# Altium footprint library Custom.PcbLib: 28 footprints (part 1 of 2)
Each footprint in its own frame and in the unit in brackets; x right, y up, seen from the top. Pads: shape width x height; smd on the part's side, far side on the other; paste and mask are expansions set on the pad; w line width, h text height; cw(c..) or ccw(c..) is an arc to the next point about the centre after c.
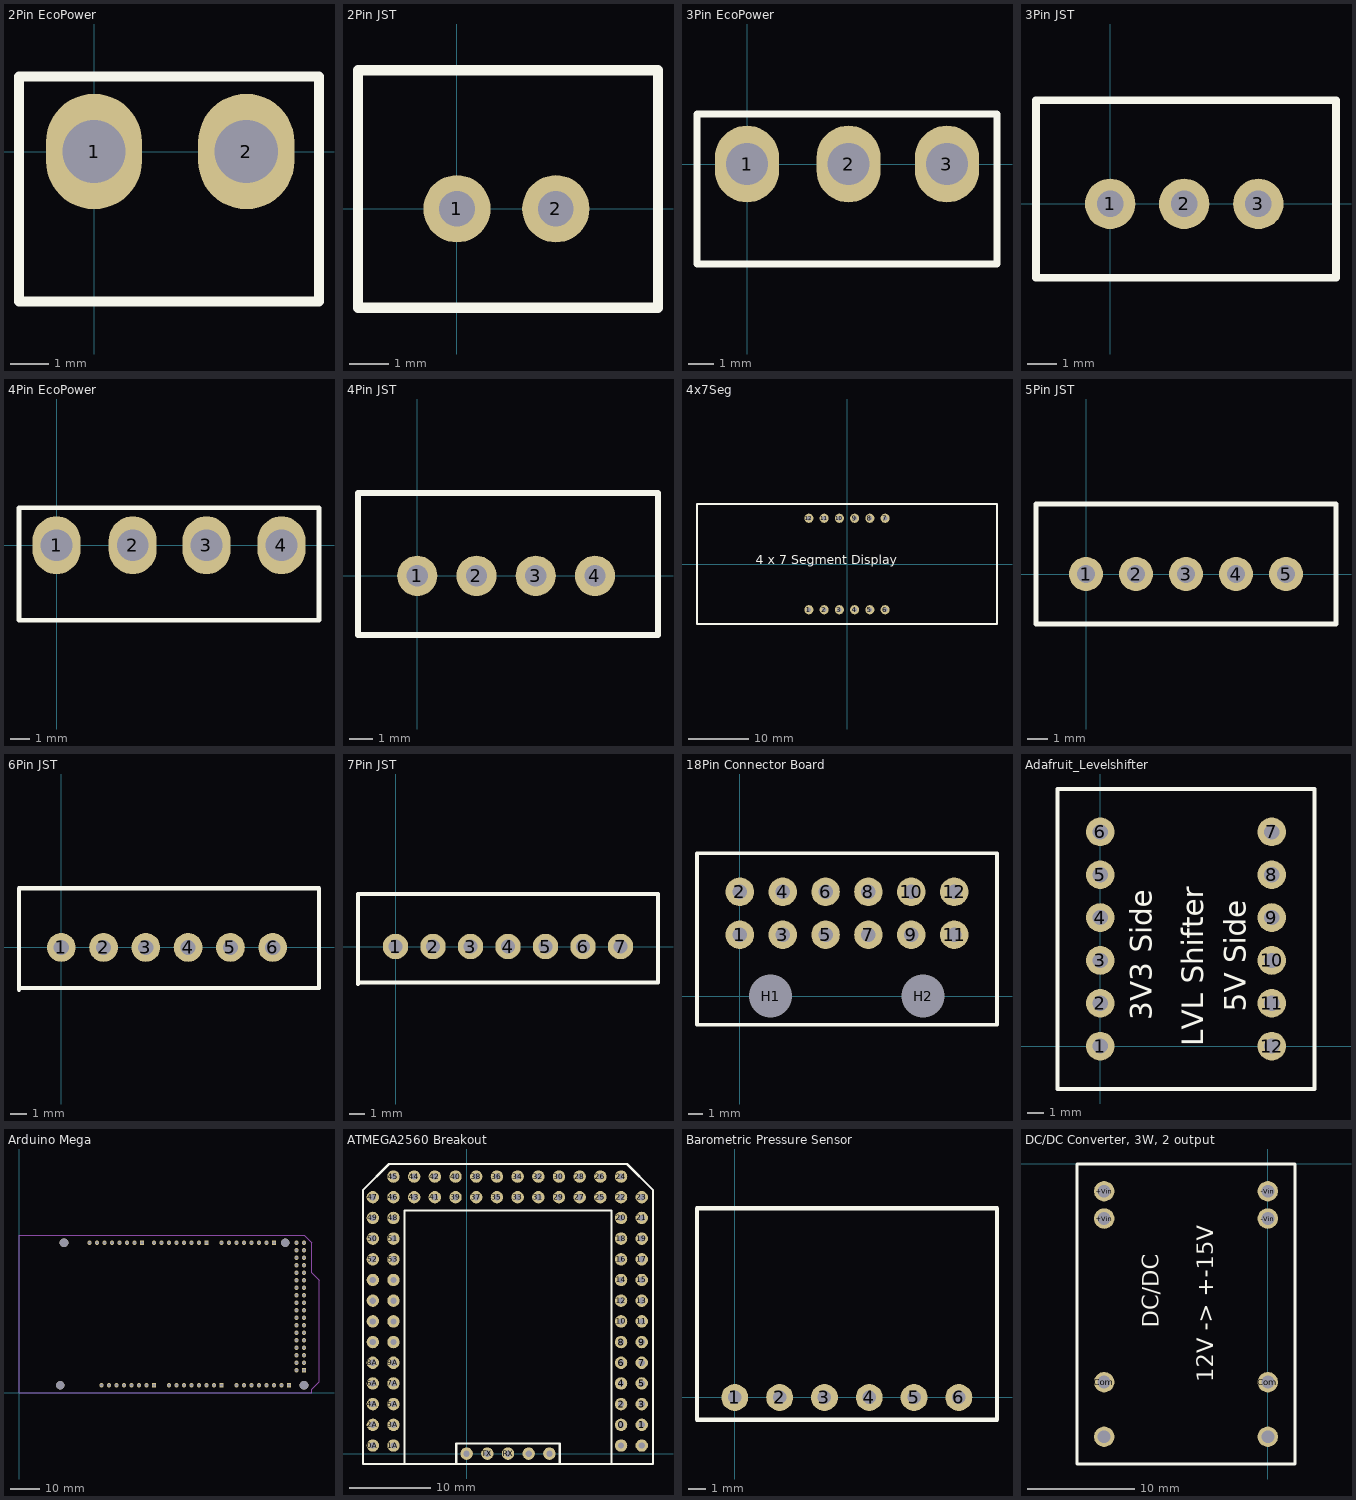
[diagram p0: the footprints below, top view; thin cyan lines are the x and y axes]

## 2Pin EcoPower [mm]
pads (2):
  oval 2.5x3 hole 1.65: 1(0,0) 2(3.96,0)
Top Overlay:
  lines w0.254: -1.95,-3.9 -1.95,0 -1.95,1.95 5.85,1.95 5.85,-3.9 -1.95,-3.9

## 2Pin JST [mm]
pads (2):
  round 1.7 hole 0.9: 1(0,0) 2(2.5,0)
Top Overlay:
  lines w0.254: -2.5,-2.5 -2.5,3.5 5.08,3.5 5.08,-2.5 -2.5,-2.5

## 3Pin EcoPower [mm]
pads (3):
  oval 2.5x3 hole 1.65: 1(0,0) 2(3.96,0) 3(7.8,0)
Top Overlay:
  lines w0.254: -1.95,-3.9 -1.95,0 -1.95,1.95 9.75,1.95 9.75,-3.9 -1.95,-3.9

## 3Pin JST [mm]
pads (3):
  round 1.7 hole 0.9: 1(0,0) 2(2.5,0) 3(5,0)
Top Overlay:
  lines w0.254: -2.5,-2.5 7.62,-2.5 7.62,3.5 -2.5,3.5 -2.5,-2.5

## 4Pin EcoPower [mm]
pads (4):
  oval 2.5x3 hole 1.65: 1(0,0) 2(3.96,0) 3(7.8,0) 4(11.7,0)
Top Overlay:
  lines w0.254: -1.95,-3.9 -1.95,0 -1.95,1.95 13.65,1.95 13.65,-3.9 -1.95,-3.9

## 4Pin JST [mm]
pads (4):
  round 1.7 hole 0.9: 1(0,0) 2(2.5,0) 3(5,0) 4(7.5,0)
Top Overlay:
  lines w0.254: -2.5,-2.5 10.16,-2.5 10.16,3.5 -2.5,3.5 -2.5,-2.5
3D body "B4B-XH-A.STEP": height 7.26, standoff -3.14, extent -2.494,-2.286 9.906,3.464

## 4x7Seg [mil]
pads (12):
  round 60 hole 30: 1(-250,-300) 2(-150,-300) 3(-50,-300) 4(50,-300) 5(150,-300) 6(250,-300) 7(250,300) 8(150,300) 9(50,300) 10(-50,300) 11(-150,300) 12(-250,300)
Top Overlay:
  lines w10: -984.25,-393.7 984.25,-393.7 984.25,393.7 -984.25,393.7 -984.25,-393.7
  text "4 x 7 Segment Display" at -600,0 h60
3D body "4x7Seg.STEP": height 314.96, standoff 0, extent -990.15,-375 990.16,373.03
3D body: height 10, standoff 0, extent 0,0 0,0
3D body: height 10, standoff 0, extent 475,125 475,125

## 5Pin JST [mm]
pads (5):
  round 1.7 hole 0.9: 1(0,0) 2(2.5,0) 3(5,0) 4(7.5,0) 5(10,0)
Top Overlay:
  lines w0.254: 12.5,-2.5 -2.5,-2.5 -2.5,3.5 12.5,3.5 12.5,-2.4

## 6Pin JST [mm]
pads (6):
  round 1.7 hole 0.9: 1(0,0) 2(2.5,0) 3(5,0) 4(7.5,0) 5(10,0) 6(12.5,0)
Top Overlay:
  lines w0.254: -2.5,-2.5 -2.5,3.5 15.24,3.5 15.24,-2.4 -2.5,-2.4

## 7Pin JST [mm]
pads (7):
  round 1.7 hole 0.9: 1(0,0) 2(2.5,0) 3(5,0) 4(7.5,0) 5(10,0) 6(12.5,0) 7(15,0)
Top Overlay:
  lines w0.254: -2.5,-2.5 -2.5,3.5 17.5,3.5 17.5,-2.4 -2.5,-2.4

## 18Pin Connector Board [mm]
pads (14):
  round 2 hole 1.02: 1(0,4.3) 2(0,7.3) 3(3,4.3) 4(3,7.3) 5(6,4.3) 6(6,7.3) 7(9,4.3) 8(9,7.3) 9(12,4.3) 10(12,7.3) 11(15,4.3) 12(15,7.3)
  round 1.524 hole 3: H1(2.15,0) H2(12.83,0)
Top Overlay:
  lines w0.254: -3,-2 18,-2 18,10 -3,10 -3,-2

## Adafruit_Levelshifter [mm]
pads (12):
  round 1.7 hole 0.9: 1(0,0) 2(0,2.54) 3(0,5.08) 4(0,7.62) 5(0,10.16) 6(0,12.7) 7(10.16,12.7) 8(10.16,10.16) 9(10.16,7.62) 10(10.16,5.08) 11(10.16,2.54) 12(10.16,0)
Top Overlay:
  lines w0.254: -2.54,-2.54 12.7,-2.54 12.7,15.24 -2.54,15.24 -2.54,-2.54
  text "3V3 Side" at 3.048,1.524 h1.27
  text "5V Side" at 8.636,2.032 h1.27
  text "LVL Shifter" at 6.096,0 h1.27

## Arduino Mega [mm] "Arduino Mega 2560"
pads (84):
  rect 1.5x1.5 hole 0.9: 0(63.5,50.8) 8(41.656,50.8) 21(86.36,50.8) A7(68.58,2.54) A15(91.44,2.54) GND(96.52,7.62) VIN(45.72,2.54)
  round 1.5 hole 0.9: 1(60.96,50.8) 2(58.42,50.8) 3(55.88,50.8) 3V3(35.56,2.54) 4(53.34,50.8) 5(50.8,50.8) 5V(38.1,2.54) 5V(93.98,50.8) 5V(96.52,50.8) 6(48.26,50.8) 7(45.72,50.8) 9(39.116,50.8) 10(36.576,50.8) 11(34.036,50.8) 12(31.496,50.8) 13(28.956,50.8) 14(68.58,50.8) 15(71.12,50.8) 16(73.66,50.8) 17(76.2,50.8) 18(78.74,50.8) 19(81.28,50.8) 20(83.82,50.8) 22(93.98,48.26) 23(96.52,48.26) 24(93.98,45.72) 25(96.52,45.72) 26(93.98,43.18) 27(96.52,43.18) 28(93.98,40.64) 29(96.52,40.64) 30(93.98,38.1) 31(96.52,38.1) 32(93.98,35.56) 33(96.52,35.56) 34(93.98,33.02) 35(96.52,33.02) 36(93.98,30.48) 37(96.52,30.48) 38(93.98,27.94) 39(96.52,27.94) 40(93.98,25.4) 41(96.52,25.4) 42(93.98,22.86) 43(96.52,22.86) 44(93.98,20.32) 45(96.52,20.32) 46(93.98,17.78) 47(96.52,17.78) 48(93.98,15.24) 49(96.52,15.24) 50(93.98,12.7) 51(96.52,12.7) 52(93.98,10.16) 53(96.52,10.16) 100(27.94,2.54) A0(50.8,2.54) A1(53.34,2.54) A2(55.88,2.54) A3(58.42,2.54) A4(60.96,2.54) A5(63.5,2.54) A6(66.04,2.54) A8(73.66,2.54) A9(76.2,2.54) A10(78.74,2.54) A11(81.28,2.54) A12(83.82,2.54) A13(86.36,2.54) A14(88.9,2.54) GND(26.416,50.8) GND(40.64,2.54) GND(43.18,2.54) GND(93.98,7.62) IOREF(30.48,2.54) REF(23.876,50.8) RST(33.02,2.54)
via 96.52,2.54 diameter 3 hole 3
via 90.17,50.8 diameter 3 hole 3
via 15.24,50.8 diameter 3 hole 3
via 13.97,2.54 diameter 3 hole 3
Bottom Overlay:
  lines w0.2: 22.606,49.53 42.926,49.53 42.926,52.07 22.606,52.07 22.606,49.53 ; 26.67,1.27 46.99,1.27 46.99,3.81 26.67,3.81 26.67,1.27 ; 44.45,49.53 64.77,49.53 64.77,52.07 44.45,52.07 44.45,49.53 ; 49.53,1.27 69.85,1.27 69.85,3.81 49.53,3.81 49.53,1.27 ; 67.31,49.53 87.63,49.53 87.63,52.07 67.31,52.07 67.31,49.53 ; 72.39,1.27 92.71,1.27 92.71,3.81 72.39,3.81 72.39,1.27 ; 92.71,6.35 97.79,6.35 97.79,52.07 92.71,52.07 92.71,6.35
Mechanical 1:
  lines w0.254: 99.06,40.63 101.6,38.09 101.6,3.81 99.06,1.27 99.06,0 1.64,0 0,0 0,1.64 0,53.34 96.52,53.34 99.06,50.8 99.06,40.64
3D body "ArduinoMega2560R3.stp": height -0.52, standoff -15.41, extent -6.862,-0.143 101.716,53.07

## ATMEGA2560 Breakout [mil] "Tindie breakout board for ATMega2560"
pads (79):
  round 60 hole 30: 0(746.46,139.37) 0A(-453.54,39.37) 1(846.46,139.37) 1A(-353.54,39.37) 2(746.46,239.37) 2A(-453.54,139.37) 3(846.46,239.37) 3A(-353.54,139.37) 4(746.46,339.37) 4A(-453.54,239.37) 5(846.46,339.37) 5A(-353.54,239.37) 6(746.46,439.37) 6A(-453.54,339.37) 7(846.46,439.37) 7A(-353.54,339.37) 8(746.46,539.37) 8A(-453.54,439.37) 9(846.46,539.37) 9A(-353.54,439.37) 10(746.46,639.37) 10A(-453.54,539.37) 11(846.46,639.37) 11A(-353.54,539.37) 12(746.46,739.37) 12A(-453.54,639.37) 13(846.46,739.37) 13A(-353.54,639.37) 14(746.46,839.37) 14A(-453.54,739.37) 15(846.46,839.37) 15A(-353.54,739.37) 16(746.46,939.37) 17(846.46,939.37) 18(746.46,1039.37) 19(846.46,1039.37) 20(746.46,1139.37) 21(846.46,1139.37) 22(746.46,1239.37) 23(846.46,1239.37) 24(746.46,1339.37) 25(646.46,1239.37) 26(646.46,1339.37) 27(546.46,1239.37) 28(546.46,1339.37) 29(446.46,1239.37) 30(446.46,1339.37) 31(346.46,1239.37) 32(346.46,1339.37) 33(246.46,1239.37) 34(246.46,1339.37) 35(146.46,1239.37) 36(146.46,1339.37) 37(46.46,1239.37) 38(46.46,1339.37) 39(-53.54,1239.37) 40(-53.54,1339.37) 41(-153.54,1239.37) 42(-153.54,1339.37) 43(-253.54,1239.37) 44(-253.54,1339.37) 45(-353.54,1339.37) 46(-353.54,1239.37) 47(-453.54,1239.37) 48(-353.54,1139.37) 49(-453.54,1139.37) 50(-453.54,1039.37) 51(-353.54,1039.37) 52(-453.54,939.37) 53(-353.54,939.37) DTR(0,0) EXT5V(746.46,39.37) GND(300,0) GND(846.46,39.37) REF(-453.54,839.37) RST(-353.54,839.37) RX(200,0) TX(100,0) USB5V(400,0)
Top Overlay:
  lines w10: -300,-50 -300,1175 700,1175 700,-50 ; -50,-50 450,-50 ; -50,-50 -50,50 450,50 450,-50 ; -50,-50 -500,-50 -500,1275 -375,1400 775,1400 900,1275 900,-50 450,-50

## Barometric Pressure Sensor [mil]
pads (6):
  round 60 hole 30: 1(0,0) 2(100,0) 3(200,0) 4(300,0) 5(400,0) 6(500,0)
Top Overlay:
  lines w10: -84.29,-50 585,-50 585,422.44 -84.29,422.44 -84.29,-50

## DC/DC Converter, 3W, 2 output [mm] "Mean Well DWN03"
pads (8):
  round 1.905 hole 1.2: +Vin(-15.24,-5.08) +Vin(-15.24,-2.54) +Vout(-15.24,-25.4) -Vin(0,-5.08) -Vin(0,-2.54) -Vout(0,-25.4) Com(-15.24,-20.32) Com(0,-20.32)
Top Overlay:
  lines w0.254: -17.78,-27.94 2.54,-27.94 2.54,0 -17.78,0 -17.78,-27.94
  text "12V -> +-15V" at -5.08,-20.32 h1.52
  text "DC/DC" at -10.16,-15.24 h1.52